# Altium schematic symbol library Header 5.08 x 4.SchLib: 1 symbol
Pins are listed as number, name and electrical type; pins without a type are passive.

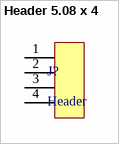
[diagram p0: symbol Header 5.08 x 4]

## Header 5.08 x 4
designator J?, comment Header
Cam
footprint Header 5.08 x 4
pins: 1 13, 2 14, 3 14, 4 14